# Altium footprint library T5_Turn_Down_For_Watt.PcbLib: 38 footprints (part 2 of 3)
Each footprint in its own frame and in the unit in brackets; x right, y up, seen from the top. Pads: shape width x height; smd on the part's side, far side on the other; paste and mask are expansions set on the pad; w line width, h text height; cw(c..) or ccw(c..) is an arc to the next point about the centre after c.
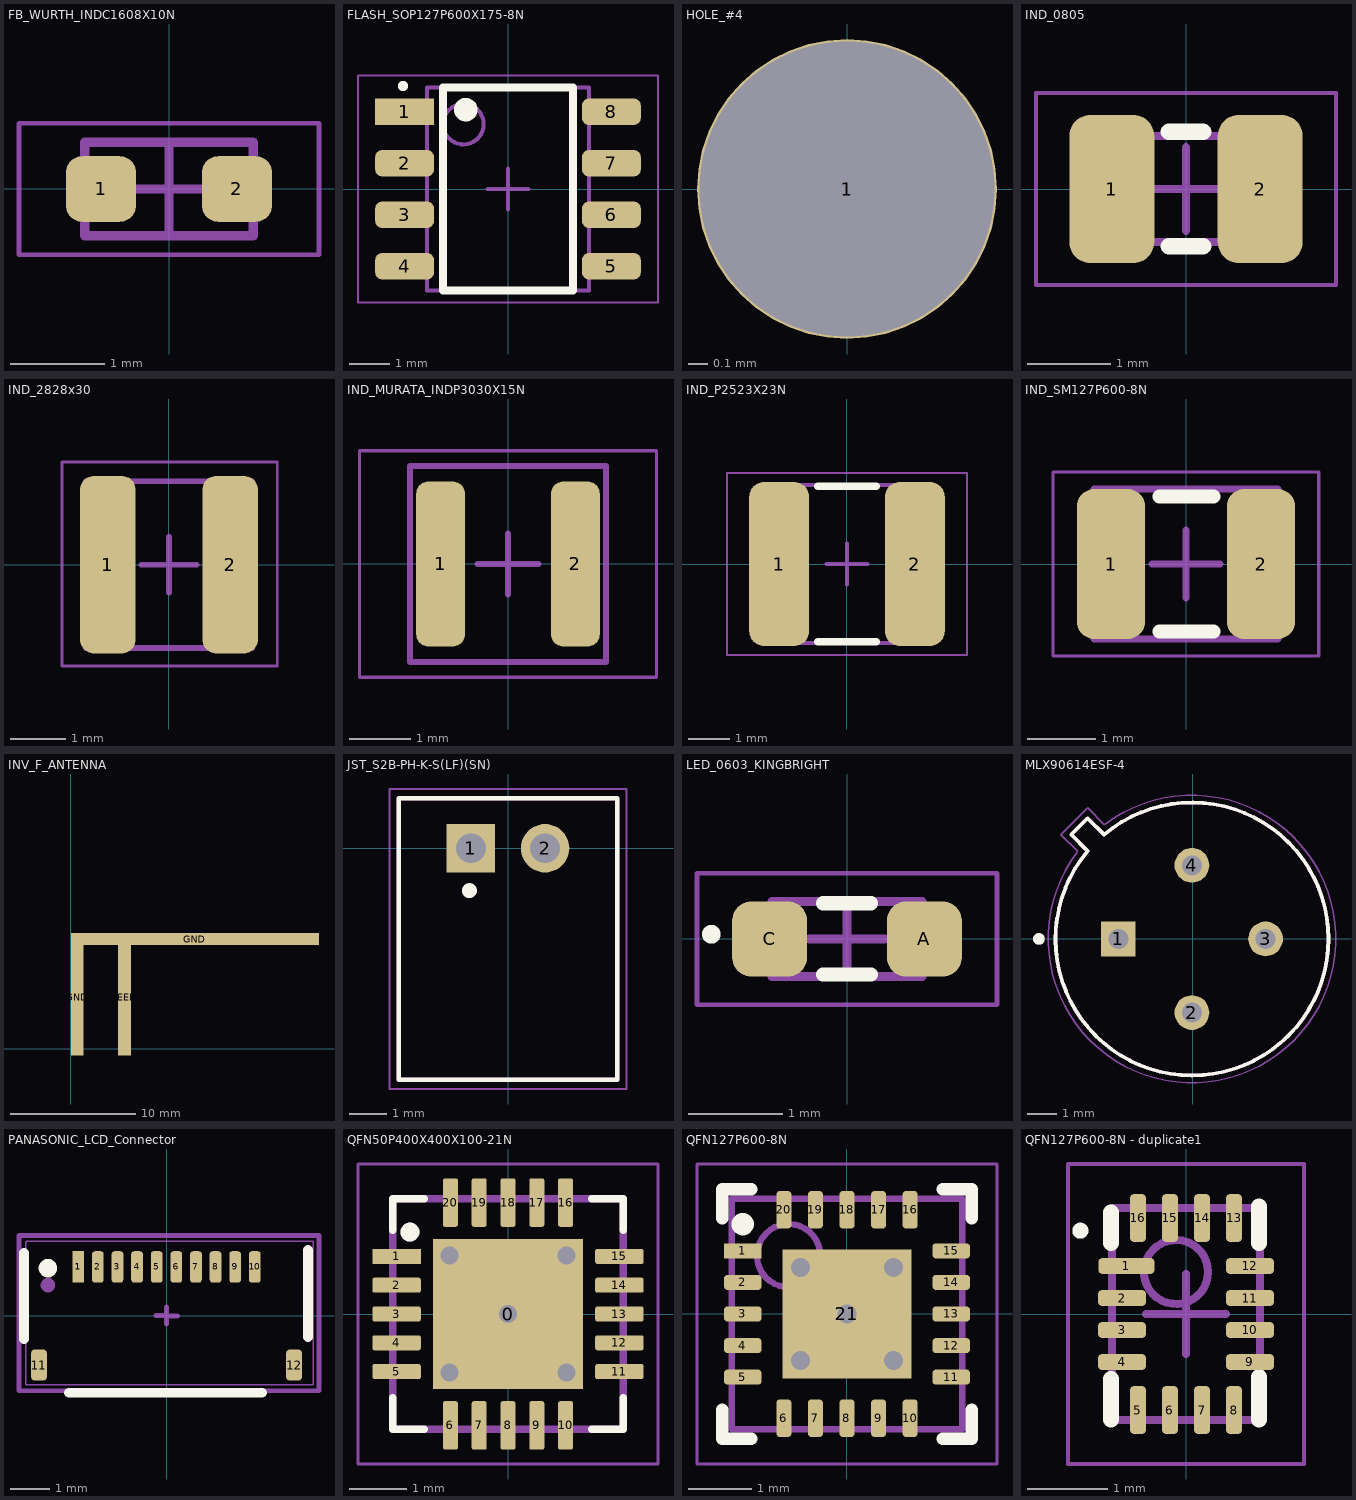
[diagram p1: the footprints below, top view; thin cyan lines are the x and y axes]

## FB_WURTH_INDC1608X10N [mm] "Chip Inductor, 2-Leads, Body 1.60x0.80mm, IPC Medium Density"
height 0.98
pads (2):
  rrect50% 0.75x0.7 smd mask+0.07: 1(-0.725,0) 2(0.725,0)
Mechanical 13:
  lines w0.1: -0.9,-0.5 0.9,-0.5 0.9,0.5 -0.9,0.5 -0.9,-0.5
  text ".Designator" at -0.75,-0.183 h0.5
Mechanical 15:
  lines w0.05: -1.6,-0.7 1.6,-0.7 1.6,0.7 -1.6,0.7 -1.6,-0.7
  lines w0.1: -0.5,0 0.5,0 ; 0,-0.5 0,0.5
3D body "FB_WURTH_INDC1608X10N.step": height 0.98, standoff 0, extent -0.9,-0.5 0.9,0.5

## FLASH_SOP127P600X175-8N [mm] "SOP, 8-Leads, Body 4.90x3.90mm, Pitch 1.27mm, IPC Medium Density"
height 1.75
pads (8):
  rect 1.45x0.65 smd mask+0.07: 1(-2.55,1.905)
  rrect50% 1.45x0.65 smd mask+0.07: 2(-2.55,0.635) 3(-2.55,-0.635) 4(-2.55,-1.905) 5(2.55,-1.905) 6(2.55,-0.635) 7(2.55,0.635) 8(2.55,1.905)
Top Overlay:
  circle w0.3: c-1.041,1.956 r0.14
  circle w0.15: c-2.591,2.54 r0.051
  lines w0.2: -1.6,-2.5 1.6,-2.5 1.6,2.5 -1.6,2.5 -1.6,-2.5
Mechanical 13:
  circle w0.1: c-1.1,1.6 r0.5
  lines w0.1: -2,-2.5 2,-2.5 2,2.5 -2,2.5 -2,-2.5
  text ".Designator" at -1.85,-2.017 h1
Mechanical 15:
  lines w0.05: -3.7,-2.8 3.7,-2.8 3.7,2.8 -3.7,2.8 -3.7,-2.8
  lines w0.1: -0.5,0 0.5,0 ; 0,-0.5 0,0.5
3D body "FLASH_SOP127P600X175-8N.step": height 1.75, standoff 0, extent -3,-2.5 3,2.5

## HOLE_#4 [mil]
pads (1):
  round 60 hole 59.06: 1(0,0)

## IND_0805 [mm]
height 1.55
pads (2):
  rrect50% 1.02x1.78 smd mask+0.07: 1(-0.89,0) 2(0.89,0)
Top Overlay:
  lines w0.2: -0.203,-0.686 0.203,-0.686 ; -0.203,0.686 0.203,0.686
Mechanical 13:
  lines w0.1: -1.145,-0.635 1.145,-0.635 1.145,0.635 -1.145,0.635 -1.145,-0.635
  text ".Designator" at -0.945,-0.102 h1
Mechanical 15:
  lines w0.05: -1.8,-1.15 1.8,-1.15 1.8,1.15 -1.8,1.15 -1.8,-1.15
  lines w0.1: -0.5,0 0.5,0 ; 0,-0.5 0,0.5
3D body "IND_0805.step": height 1.55, standoff 0, extent -1.145,-0.635 1.145,0.635

## IND_2828x30 [mm] "Precision Wire Wound Inductor, 2-Leads, Body 2.80x2.80mm, IPC Medium Density"
height 3
pads (2):
  rrect50% 1x3.2 smd: 1(-1.1,0) 2(1.1,0)
Mechanical 13:
  lines w0.1: -1.5,-1.5 -1.5,1.5 1.5,1.5 1.5,-1.5 -1.5,-1.5
  text ".Designator" at -1.12,-0.945 h0.9
Mechanical 15:
  lines w0.05: -1.925,-1.825 -1.925,1.85 1.95,1.85 1.95,-1.825 -1.925,-1.825
  lines w0.1: -0.5,0 0.5,0 ; 0,-0.5 0,0.5
3D body "744025001_Download_STP_WE-TPC-2828_rev1.stp": height 2.8, standoff 0, extent -1.4,-1.4 1.4,1.4

## IND_MURATA_INDP3030X15N [mm] "Precision Wire Wound Inductor, 2-Leads, Body 3.00x3.00mm, IPC Medium Density"
height 1.5
pads (2):
  rrect50% 0.8x2.7 smd mask+0.07: 1(-1.1,0) 2(1.1,0)
Mechanical 13:
  lines w0.1: -1.6,-1.6 -1.6,1.6 1.6,1.6 1.6,-1.6 -1.6,-1.6
  text ".Designator" at -1.45,-1.117 h1
Mechanical 15:
  lines w0.05: -2.425,-1.85 -2.425,1.85 2.425,1.85 2.425,-1.85 -2.425,-1.85
  lines w0.1: -0.5,0 0.5,0 ; 0,-0.5 0,0.5
3D body "IND_MURATA_INDP3030X15N.step": height 1.6, standoff 0, extent -1.6,-1.5 1.6,1.5

## IND_P2523X23N [mm] "FIXED IND 22UH 900MA 360MOHM SMD"
height 1.71
pads (2):
  rrect50% 1.45x3.976 smd: 1(-1.64,0) 2(1.64,0)
Top Overlay:
  lines w0.178: -0.711,-1.88 0.711,-1.88 ; -0.711,1.88 0.711,1.88
Mechanical 13:
  lines w0.1: -1.91,-1.91 1.91,-1.91 1.91,1.91 -1.91,1.91 -1.91,-1.91
  text ".Designator" at -1.656,-1.148 h1.52
Mechanical 15:
  lines w0.05: -2.9,-2.2 2.9,-2.2 2.9,2.2 -2.9,2.2 -2.9,-2.2
  lines w0.1: -0.5,0 0.5,0 ; 0,-0.5 0,0.5
3D body "Coilcraft-LPS4018.step": height 1.8, standoff 0, extent -1.99,-1.99 1.99,1.99

## IND_SM127P600-8N [mm] "FIXED IND 10UH 850MA 300MOHM SMD"
height 1
pads (2):
  rrect50% 1x2.2 smd: 1(-1.1,0) 2(1.1,0)
Top Overlay:
  lines w0.2: -0.394,-0.991 0.406,-0.991 ; -0.394,0.991 0.406,0.991
Mechanical 13:
  lines w0.1: -1.35,-1.1 -1.35,1.1 1.35,1.1 1.35,-1.1 -1.35,-1.1
  text ".Designator" at -1.15,-0.567 h1
Mechanical 15:
  lines w0.05: -1.95,-1.35 -1.95,1.35 1.95,1.35 1.95,-1.35 -1.95,-1.35
  lines w0.1: -0.5,0 0.5,0 ; 0,-0.5 0,0.5
3D body "Chip2PinSM127P600-8N.step": height 1, standoff 0, extent -1.35,-1.1 1.35,1.1

## INV_F_ANTENNA [mil]
pads (3):
  rect 40x367.36 smd paste-1000 mask+4: FEED(169,163.5) GND(20,163.5)
  rect 782x39 smd paste-1000 mask+4: GND(391,346.5)

## JST_S2B-PH-K-S(LF)(SN) [mm]
pads (2):
  rect 1.308x1.308 hole 0.8: 1(-1,0)
  round 1.308 hole 0.8: 2(1,0)
Top Overlay:
  circle w0.2: c-1.041,-1.143 r0.1
  lines w0.127: -2.95,-6.25 2.95,-6.25 2.95,1.35 -2.95,1.35 -2.95,-6.25
Mechanical 13:
  circle w0.2: c-1.041,-1.143 r0.1
  lines w0.127: -2.95,-6.25 2.95,-6.25 2.95,1.35 -2.95,1.35 -2.95,-6.25
Mechanical 15:
  lines w0.05: -3.2,-6.5 3.2,-6.5 3.2,1.6 -3.2,1.6 -3.2,-6.5
3D body "S2B-PH-K-S(LF)(SN)--3DModel-STEP-1.STEP": height 4.8, standoff -3.38, extent -2.95,-6.2 2.95,1.4

## LED_0603_KINGBRIGHT [mm] "Chip Diode, 2-Leads, Body 1.60x0.80mm, IPC Medium Density"
height 0.75
pads (2):
  rrect50% 0.8x0.8 smd mask+0.07: A(0.825,0) C(-0.825,0)
Top Overlay:
  circle w0.1: c-1.448,0.051 r0.05
  lines w0.15: -0.254,-0.381 0.254,-0.381 ; -0.254,0.381 0.254,0.381
Mechanical 13:
  circle w0.15: c-0.584,0.203 r0.05
  lines w0.1: -0.8,-0.4 -0.8,0.4 0.8,0.4 0.8,-0.4 -0.8,-0.4
  text ".Designator" at -0.7,-0.133 h0.5
Mechanical 15:
  lines w0.05: -1.6,-0.7 -1.6,0.7 1.6,0.7 1.6,-0.7 -1.6,-0.7
  lines w0.1: -0.4,0 0.4,0 ; 0,-0.4 0,0.4
3D body "APT1608.STEP": height 0.75, standoff 0, extent -0.801,-0.4 0.81,0.4

## MLX90614ESF-4 [mm] "Temperature Sensor Digital, Infrared (IR) -40°C ~ 85°C 16 b TO-39"
pads (4):
  rect 1.198x1.198 hole 0.69 mask+0.076: 1(-2.57,-0.007)
  round 1.198 hole 0.69 mask+0.076: 2(-0.03,-2.547) 3(2.51,-0.007) 4(-0.03,2.533)
Top Overlay:
  circle w0.2: c-5.31,-0.007 r0.1
  lines w0.127: -3.635,3.02 ccw(c-0.025,-0.009) -3.357,-3.341 ; -3.629,3.026 -4.195,3.592 -3.629,4.158 -3.063,3.592 ; -3.36,-3.337 ccw(c-0.03,-0.007) 3.3,-3.337 ccw(c-0.03,-0.007) 3.3,3.323 ; -3.056,3.598 cw(c-0.028,-0.011) 3.304,3.32
Mechanical 13:
  circle w0.2: c-5.31,-0.007 r0.1
  lines w0.127: -3.635,3.02 ccw(c-0.025,-0.009) -3.357,-3.341 ; -3.629,3.026 -4.195,3.592 -3.629,4.158 -3.063,3.592 ; -3.36,-3.337 ccw(c-0.03,-0.007) 3.3,-3.337 ccw(c-0.03,-0.007) 3.3,3.323 ; -3.056,3.598 cw(c-0.028,-0.011) 3.304,3.32
  text ".Designator" at -2.819,-2.667 h1.52
Mechanical 15:
  lines w0.05: -3.989,2.982 ccw(c-0.025,-0.006) -3.535,-3.516 ; -3.967,3.011 -4.548,3.592 -3.629,4.511 -3.048,3.93 ; -3.537,-3.514 ccw(c-0.03,-0.007) 3.477,-3.514 ccw(c-0.03,-0.007) 3.477,3.5 ; -3.019,3.952 cw(c-0.031,-0.012) 3.479,3.498

## PANASONIC_LCD_Connector [mm]
pads (13):
  oval 0.3x0.8 smd mask+0.07: 1(-2.25,1.25)
  rect 0.3x0.8 smd mask+0.07: 1(-2.25,1.25)
  rrect50% 0.3x0.8 smd mask+0.07: 2(-1.75,1.25) 3(-1.25,1.25) 4(-0.75,1.25) 5(-0.25,1.25) 6(0.25,1.25) 7(0.75,1.25) 8(1.25,1.25) 9(1.75,1.25) 10(2.25,1.25)
  rrect50% 0.4x0.8 smd mask+0.07: 11(-3.25,-1.25) 12(3.25,-1.25)
Top Overlay:
  circle w0.254: c-3.023,1.219 r0.108
  lines w0.254: -3.632,-0.584 -3.632,1.6 ; -2.489,-1.956 2.438,-1.956 ; 3.607,-0.533 3.607,1.676
Mechanical 13:
  circle w0.254: c-3.023,0.787 r0.057
  lines w0.038: -3.581,-1.753 -3.581,1.88 -3.556,1.905 3.734,1.905 3.734,-1.753 -3.581,-1.753
  text ".Designator" at -2.344,-0.849 h0.75
Mechanical 15:
  lines w0.127: -0.267,0.013 0,0.013 0,-0.203 0,0.229 0,0 ; 3.873,2.057 -3.759,2.057 -3.759,-1.905 3.886,-1.905 3.886,2.057 ; 0,0 0.279,0 0,0
3D body "ayf531035-closed.step": height 1, standoff 0, extent -3.5,-1.85 3.5,1.85

## QFN50P400X400X100-21N [mm] "AD8232-ECG Front End 20-LFCSP (4x4)"
pads (21):
  rect 2.6x2.6 smd paste-100 mask+0.076: 0(0,0)
  rect 0.84x0.26 smd mask+0.076: 1(-1.935,1)
  rrect25% 0.84x0.26 smd mask+0.076: 2(-1.935,0.5) 3(-1.935,0) 4(-1.935,-0.5) 5(-1.935,-1) 11(1.935,-1) 12(1.935,-0.5) 13(1.935,0) 14(1.935,0.5) 15(1.935,1)
  rrect25% 0.26x0.84 smd mask+0.076: 6(-1,-1.935) 7(-0.5,-1.935) 8(0,-1.935) 9(0.5,-1.935) 10(1,-1.935) 16(1,1.935) 17(0.5,1.935) 18(0,1.935) 19(-0.5,1.935) 20(-1,1.935)
via 1.016,1.016 diameter 0.559 hole 0.305
via 0,0 diameter 0.559 hole 0.305
via -1.016,-1.016 diameter 0.559 hole 0.305
via 1.016,-1.016 diameter 0.559 hole 0.305
via -1.016,1.016 diameter 0.559 hole 0.305
Top Overlay:
  circle w0.2: c-1.702,1.422 r0.064
  lines w0.127: -2,-1.45 -2,-2 -1.45,-2 ; -2,1.45 -2,2 -1.45,2 ; 1.45,-2 2,-2 2,-1.45 ; 1.45,2 2,2 2,1.45
Top Paste:
  region: 1.245,-0.737 1.245,0.737 0.762,0.737 0.762,-0.737
  rectangle: -0.737,0.279 0.737,1.245
  region: -0.762,-0.737 -0.762,0.737 -1.245,0.737 -1.245,-0.737
  rectangle: -0.742,-1.245 0.731,-0.279
Mechanical 13:
  circle w0.2: c-1.702,1.422 r0.064
  lines w0.127: -2,-2 2,-2 2,2 -2,2 -2,-2
  text ".Designator" at -1.746,-1.238 h1.52
Mechanical 15:
  lines w0.05: -2.605,-2.605 2.605,-2.605 2.605,2.605 -2.605,2.605 -2.605,-2.605
3D body: height 0.25, standoff 0, extent -2.057,-2.057 2.057,2.057

## QFN127P600-8N [mm] "Energy Harvesting PMIC 20-VQFN (3.5x3.5)"
height 1
pads (21):
  rect 0.6x0.24 smd mask+0.07: 1(-1.65,1)
  rrect50% 0.6x0.24 smd mask+0.07: 2(-1.65,0.5) 3(-1.65,0) 4(-1.65,-0.5) 5(-1.65,-1) 11(1.65,-1) 12(1.65,-0.5) 13(1.65,0) 14(1.65,0.5) 15(1.65,1)
  rrect50% 0.24x0.6 smd mask+0.07: 6(-1,-1.65) 7(-0.5,-1.65) 8(0,-1.65) 9(0.5,-1.65) 10(1,-1.65) 16(1,1.65) 17(0.5,1.65) 18(0,1.65) 19(-0.5,1.65) 20(-1,1.65)
  rect 2.05x2.05 smd paste-100 mask+0.07: 21(0,0)
via -0.737,0.737 diameter 0.559 hole 0.305
via 0.737,0.737 diameter 0.559 hole 0.305
via 0.737,-0.737 diameter 0.559 hole 0.305
via -0.737,-0.737 diameter 0.559 hole 0.305
via 0,0 diameter 0.559 hole 0.305
Top Overlay:
  circle w0.25: c-1.651,1.422 r0.051
  lines w0.2: -1.975,-1.52 -1.975,-1.975 -1.52,-1.975 ; -1.975,1.52 -1.975,1.975 -1.52,1.975 ; 1.52,-1.975 1.975,-1.975 1.975,-1.52 ; 1.52,1.975 1.975,1.975 1.975,1.52
Top Paste:
  region: -1.016,0.457 -1.016,-0.457 -0.483,-0.457 -0.483,0.457
  region: 0.483,0.457 0.483,-0.457 1.016,-0.457 1.016,0.457
  rectangle: -0.457,0.279 0.457,1.016
  rectangle: -0.457,-1.016 0.457,-0.279
Mechanical 13:
  circle w0.1: c-0.925,0.925 r0.5
  lines w0.1: -1.825,-1.825 1.825,-1.825 1.825,1.825 -1.825,1.825 -1.825,-1.825
  text ".Designator" at -1.571,-1.063 h1.52
Mechanical 15:
  lines w0.05: -2.375,-2.375 2.375,-2.375 2.375,2.375 -2.375,2.375 -2.375,-2.375
  lines w0.1: -0.5,0 0.5,0 ; 0,-0.5 0,0.5
3D body: height 1, standoff 0, extent -1.825,-1.825 1.825,1.825

## QFN127P600-8N - duplicate1 [mm]
height 0.55
pads (16):
  rrect50% 0.7x0.2 smd paste+0 mask+0.07: 1(-0.745,0.6)
  rrect50% 0.6x0.2 smd paste+0 mask+0.07: 2(-0.8,0.2) 3(-0.8,-0.2) 4(-0.8,-0.6) 9(0.8,-0.6) 10(0.8,-0.2) 11(0.8,0.2) 12(0.8,0.6)
  rrect50% 0.2x0.6 smd paste+0 mask+0.07: 5(-0.6,-1.2) 6(-0.2,-1.2) 7(0.2,-1.2) 8(0.6,-1.2) 13(0.6,1.2) 14(0.2,1.2) 15(-0.2,1.2) 16(-0.6,1.2)
Top Overlay:
  circle w0.1: c-1.321,1.041 r0.05
  lines w0.2: -0.94,-1.321 -0.94,-0.813 ; -0.94,0.889 -0.94,1.27 ; 0.914,-1.321 0.914,-0.787 ; 0.914,0.889 0.914,1.346
Mechanical 13:
  circle w0.1: c-0.125,0.525 r0.4
  lines w0.1: -0.925,-1.325 -0.925,1.325 0.925,1.325 0.925,-1.325 -0.925,-1.325
Mechanical 15:
  lines w0.05: -1.475,-1.875 -1.475,1.875 1.475,1.875 1.475,-1.875 -1.475,-1.875
  lines w0.1: -0.5,0 0.5,0 ; 0,-0.5 0,0.5
3D body "QFN127P600-8N.step": height 0.55, standoff 0, extent -0.975,-1.375 0.975,1.375